# EAGLE library part MAX9611 (library X893)
High-Side, Current-Sense Amplifiers with 12-Bit ADC and Op Amp/Comparator http://www.maximintegrated.com/datasheet/index.mvp/id/6424
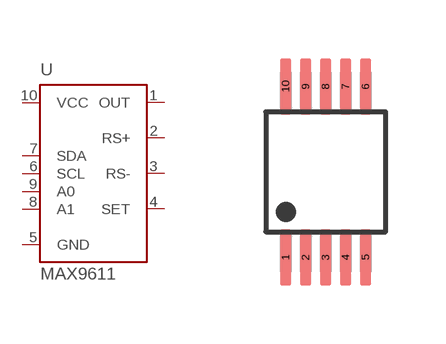
[diagram p191: symbol with the pads of UMAX10; footprint UMAX10]

Designator prefix U

## MAX9611  [UMAX10]
1  OUT
2  RS+
3  RS-
4  SET
5  GND
6  SCL
7  SDA
8  A1
9  A0
10  VCC

## Footprint UMAX10 (pad centres in mm)
smd 0.28 x 1.4: 1 -1,-2.14; 2 -0.5,-2.14; 3 0,-2.14; 4 0.5,-2.14; 5 1,-2.14; 6 1,2.14; 7 0.5,2.14; 8 0,2.14; 9 -0.5,2.14; 10 -1,2.14